# Altium schematic symbol library LT3080EMS8E.SchLib: 1 symbol
Pins are listed as number, name and electrical type; pins without a type are passive.

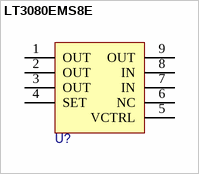
[diagram p0: symbol LT3080EMS8E]

## LT3080EMS8E
designator U?
pins: 1 OUT, 2 OUT, 3 OUT, 4 SET, 5 VCTRL, 6 NC, 7 IN, 8 IN, 9 OUT